# Altium footprint library Transistor-Fotprint.PcbLib: 28 footprints (part 2 of 2)
Each footprint in its own frame and in the unit in brackets; x right, y up, seen from the top. Pads: shape width x height; smd on the part's side, far side on the other; paste and mask are expansions set on the pad; w line width, h text height; cw(c..) or ccw(c..) is an arc to the next point about the centre after c.
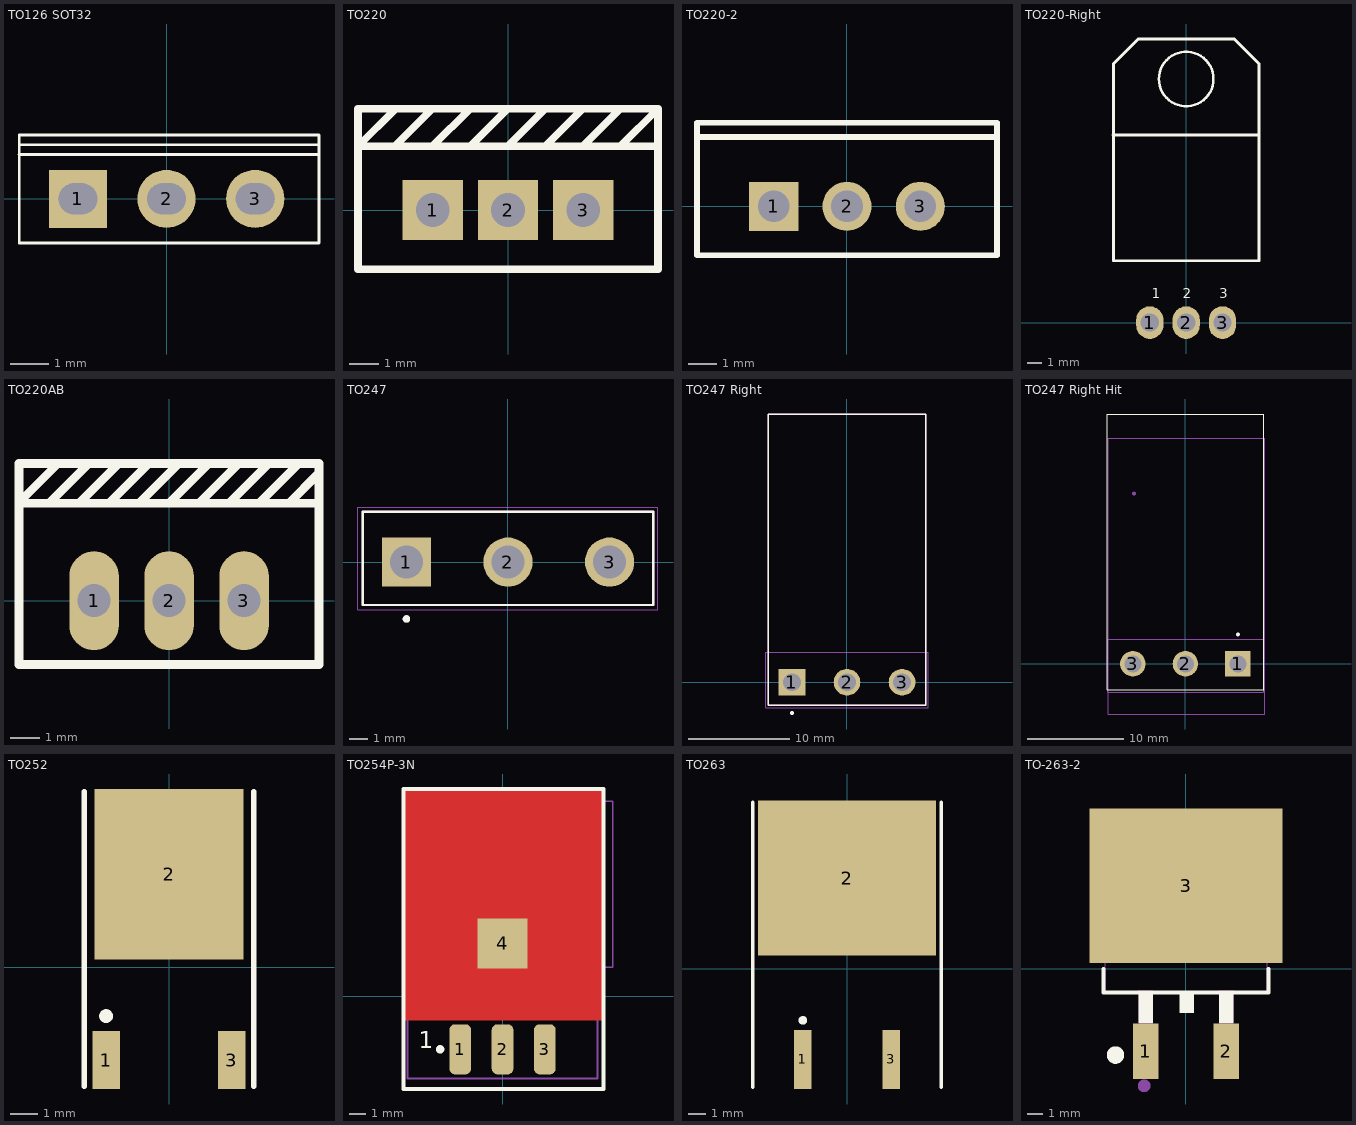
[diagram p1: the footprints below, top view; thin cyan lines are the x and y axes]

## TO126 SOT32 [mm]
height 16
pads (3):
  rect 1.5x1.5 hole 0.8 slot 1 at 0 deg: 1(-2.29,0)
  round 1.5 hole 0.8 slot 1 at 0 deg: 2(0,0) 3(2.29,0)
Top Overlay:
  lines w0.07: -3.81,1.143 3.937,1.143 3.937,1.651 ; -3.8,1.397 3.937,1.397 ; 3.937,1.651 3.937,-1.143 -3.8,-1.143 -3.8,1.651 3.937,1.651
3D body "User Library-TO-126 (SOT32) Gold PCB.STEP": height 13.19, standoff -3.54, extent -3.8,-1 3.8,1.55

## TO220 [mil]
pads (3):
  rect 80x80 hole 45: 1(-100,0) 2(0,0) 3(100,0)
Top Overlay:
  lines w10: -150.5,85 -100.5,135 ; -149.5,135 -199.5,85 ; -100.5,85 -50.5,135 ; -50.5,85 -0.5,135 ; -0.5,85 49.5,135 ; 49.5,85 99.5,135 ; 99.5,85 149.5,135 ; 149.5,85 199.5,135 ; -199.5,85 -199.5,135 199.5,135 ; -199.5,85 199.5,85 ; -199.5,85 -199.5,-78.74 199.5,-78.74 199.5,85 ; 199.5,85 199.5,135
3D body "User Library-TO-220-4.STEP": height 789.77, standoff -344.09, extent -200.79,-68.9 200.79,108.27

## TO220-2 [mm]
pads (3):
  rect 1.7x1.7 hole 1.1: 1(-2.54,0)
  round 1.7 hole 1.1: 2(0,0) 3(2.54,0)
Top Overlay:
  lines w0.2: -5.2,2.4 5.2,2.4 ; -5.2,-1.7 5.2,-1.7 5.2,2.9 -5.2,2.9 -5.2,-1.7
3D body "TO220.STEP": height 21.33, standoff -8, extent -5.607,-1.495 5.607,3.195

## TO220-Right [mil]
pads (3):
  oval 75x90 hole 50: 1(-100,0) 2(0,0) 3(100,0)
Top Overlay:
  circle w7: c0,670 r75
  lines w7.87: -201,516.22 199,516.22 ; -200,170 -200,578.74 -200,712 -132,780 132,780 200,712 200,170 -200,170
  text "2" at -10,66.93 h27.56
  text "3" at 91,66.93 h27.56
  text "1" at -95,66.93 h27.56
3D body "78XXCV.STEP": height 175, standoff -112.5, extent -198,-8 202,776

## TO220AB [mil]
pads (3):
  oval 66x132 hole 44: 1(-100,0) 2(0,0) 3(100,0)
Top Overlay:
  lines w11.81: -160,130 -108,182 ; -148,183 -200,131 -200,130 ; -120,130 -68,182 ; -80,130 -28,182 ; -40,130 12,182 ; 0,130 52,182 ; 40,130 92,182 ; 80,130 132,182 ; 120,130 172,182 ; 160,130 198.5,168.5 ; -200,130 -200,-85 200,-85 200,130 ; -200,130 200,130 ; -200,130 -200,183 200,183 200,130
3D body "SW3DPS-TO-220HS-DEFAULT.STEP": height 730, standoff -150, extent -200,-55 200,125

## TO247 [mm]
pads (3):
  rect 2.64x2.64 hole 1.76: 1(-5.45,0)
  round 2.64 hole 1.76: 2(0,0) 3(5.45,0)
Top Overlay:
  circle w0.2: c-5.45,-3.05 r0.1
  lines w0.127: -7.8,-2.3 -7.8,2.7 7.8,2.7 7.8,-2.3 -7.8,-2.3
Mechanical 13:
  circle w0.2: c-5.45,-3.05 r0.1
  lines w0.127: -7.8,-2.3 -7.8,2.7 7.8,2.7 7.8,-2.3 -7.8,-2.3
Mechanical 15:
  lines w0.05: -8.05,-2.55 -8.05,2.95 8.05,2.95 8.05,-2.55 -8.05,-2.55
3D body "step_temp.STEP": height 27.48, standoff -7.62, extent -7.8,-2.3 7.8,2.7

## TO247 Right [mm]
pads (3):
  rect 2.64x2.64 hole 1.76: 1(-5.45,0)
  round 2.64 hole 1.76: 2(0,0) 3(5.45,0)
Top Overlay:
  circle w0.2: c-5.45,-3.05 r0.1
  lines w0.127: -7.8,-2.3 -7.8,26.543 7.8,26.543 7.8,-2.3 -7.8,-2.3
Mechanical 13:
  circle w0.2: c-5.45,-3.05 r0.1
  lines w0.127: -7.8,-2.3 -7.8,26.543 7.8,26.543 7.8,-2.3 -7.8,-2.3
Mechanical 15:
  lines w0.05: -8.05,-2.55 -8.05,2.95 8.05,2.95 8.05,-2.55 -8.05,-2.55
3D body "User Library-TO-247_bent_leads.step": height 3.41, standoff -8.59, extent -7.95,-0.381 7.95,26.601

## TO247 Right Hit [mm]
pads (3):
  rect 2.64x2.64 hole 1.76: 1(5.45,0)
  round 2.64 hole 1.76: 2(0,0) 3(-5.45,0)
Top Overlay:
  circle w0.2: c5.45,3.05 r0.1
  lines w0.127: -8.128,-2.7 -8.128,25.908 8.128,25.908 8.128,-2.7 -8.128,-2.7
Mechanical 13:
  circle w0.2: c-5.323,17.651 r0.1
  lines w0.127: -8.001,-5.207 8.255,-5.207 8.255,23.401 -8.001,23.401 -8.001,-5.207
Mechanical 15:
  lines w0.05: -8.05,-2.95 8.05,-2.95 8.05,2.55 -8.05,2.55 -8.05,-2.95
3D body "User Library-TO-247 CASE 340L-02 Horizontal Bottom.STEP": height 6.61, standoff -11.69, extent -8.001,-0.504 7.999,25.396

## TO252 [mm]
pads (3):
  rect 1x2.1 smd: 1(-2.285,-3.375) 3(2.285,-3.375)
  rect 5.4x6.2 smd: 2(0,3.375)
Top Overlay:
  circle w0.25: c-2.285,-1.775 r0.125
  lines w0.2: -3.085,-4.325 -3.085,6.375 ; 3.085,-4.325 3.085,6.375
3D body "User Library-DPAK-1.step": height 2.39, standoff -0.02, extent -3.27,-4.111 3.27,5.828

## TO254P-3N [mm]
pads (4):
  rrect50% 1.3x3 smd: 1(-2.54,-3.175) 2(0,-3.175) 3(2.54,-3.175)
  rect 3x3 smd: 4(0,3.175)
Top Layer:
  rectangle: -5.949,-1.459 6.051,12.433
Top Overlay:
  circle w0.25: c-3.742,-3.175 r0.125
  lines w0.254: -5.949,-5.556 6.051,-5.556 6.051,12.444 -5.949,12.444 -5.949,-5.556
  text "1" at -5.026,-3.124 h1
Top Paste:
  rectangle: -3.773,2.744 3.847,10.77
Top Solder:
  rectangle: -5.505,0.762 5.621,11.354
  lines w0.254: -3.863,11.729 -5.344,11.306 ; 3.938,11.729 5.419,11.306 ; -5.583,1.041 ccw(c-5.254,1.041) -5.254,0.713 ; -5.583,1.041 ccw(c-5.254,1.041) -5.254,0.713 ; -5.583,1.041 -5.583,9.72 -5.583,10.99 ; -5.583,10.99 cw(c-5.254,10.99) -5.345,11.306 ; -5.583,10.99 cw(c-5.254,10.99) -5.345,11.306 ; -5.254,0.713 5.329,0.713 ; -3.773,11.742 ccw(c-3.773,11.413) -3.863,11.729 cw(c-3.773,11.413) -3.773,11.742 ; -3.773,11.742 3.847,11.742 ; 3.847,11.742 cw(c3.847,11.413) 3.938,11.729 ccw(c3.847,11.413) 3.847,11.742 ; 5.329,0.713 ccw(c5.329,1.041) 5.658,1.041 ; 5.329,0.713 ccw(c5.329,1.041) 5.658,1.041 ; 5.42,11.306 cw(c5.329,10.99) 5.658,10.99 ; 5.42,11.306 cw(c5.329,10.99) 5.658,10.99 ; 5.658,1.041 5.658,9.72 5.658,10.99
  lines w0.508: -4.577,11.371 4.669,11.371
Mechanical 13:
  lines w0.1: -2.548,1.746 6.602,1.746 6.602,11.716 -2.548,11.716 -2.548,1.746
Mechanical 15:
  lines w0.1: -0.5,3.175 0.5,3.175 ; 0,2.675 0,3.675 ; -5.7,-4.925 -5.7,11.275 5.7,11.275 5.7,-4.925 -5.7,-4.925
3D body "254-3.STEP": height 2.53, standoff -0.02, extent -5.08,-5.28 5.087,10.16

## TO263 [mm]
pads (3):
  rect 1x3.4 smd: 1(-2.54,-5.225) 3(2.54,-5.225)
  rect 10.25x8.9 smd: 2(0,5.225)
Top Overlay:
  circle w0.25: c-2.54,-2.975 r0.125
  lines w0.2: -5.425,-6.825 -5.425,9.575 ; 5.425,-6.825 5.425,9.575
3D body "D2PAK.STEP": height 4.68, standoff -0.12, extent -5.047,-6.311 4.953,9.359

## TO-263-2 [mil] "D2PAK_L10.2-W9.0-P5.08-LS16.9-BR"
pads (3):
  rect 63x137.8 smd paste+0 mask+1.97: 1(-100,-205.58) 2(100,-205.58)
  rect 480.3x383.9 smd paste+0 mask+1.97: 3(0,205.58)
Top Overlay:
  circle w27.56: c-175,-215 r7.87
  region: 82.16,-63.34 117.16,-63.34 117.16,-76.81 117.16,-134.41 100.28,-134.41 82.16,-134.41
  region: -117.84,-63.34 -82.84,-63.34 -82.84,-76.81 -82.84,-134.41 -99.72,-134.41 -117.84,-134.41
  region: -15.75,-60 19.25,-60 19.25,-110.44 2.36,-110.44 -15.75,-110.44
  lines w10: -205,-1.58 -205,-59.58 205,-59.58 205,-1.58
Mechanical 6:
  circle w15.75: c-103.94,-291.34 r7.87
Mechanical 15:
  region: -192.13,337.01 192.11,337.01 192.11,29.89 -192.13,29.89
  region: -117.32,-55.12 -82.32,-55.12 -82.32,-110.12 -82.32,-167.72 -99.21,-167.72 -117.32,-167.72
  region: -84.25,-263.78 -115.75,-263.78 -115.75,-163.78 -84.25,-163.78
  region: 115.75,-262.99 84.25,-262.99 84.25,-162.99 115.75,-162.99
  region: 82.68,-55.12 117.68,-55.12 117.68,-110.12 117.68,-167.72 100.79,-167.72 82.68,-167.72
  region: -175.03,-218.6 -173.42,-218.57 -171.17,-216.27 -171.17,-213.06 -173.42,-210.76 -175.03,-210.73 -176.64,-210.76 -178.89,-213.06 -178.89,-216.27 -176.64,-218.57
  lines w2: -200,-57.01 201.57,-57.01 201.58,380 -200,380 -200,-57.01
3D body "TO-263-2.stp": height 188.98, standoff 0, extent -207.93,-242.13 211.08,381.89